# Altium footprint library pushbuttom.PcbLib: 1 footprints
Each footprint in its own frame and in the unit in brackets; x right, y up, seen from the top. Pads: shape width x height; smd on the part's side, far side on the other; paste and mask are expansions set on the pad; w line width, h text height; cw(c..) or ccw(c..) is an arc to the next point about the centre after c.
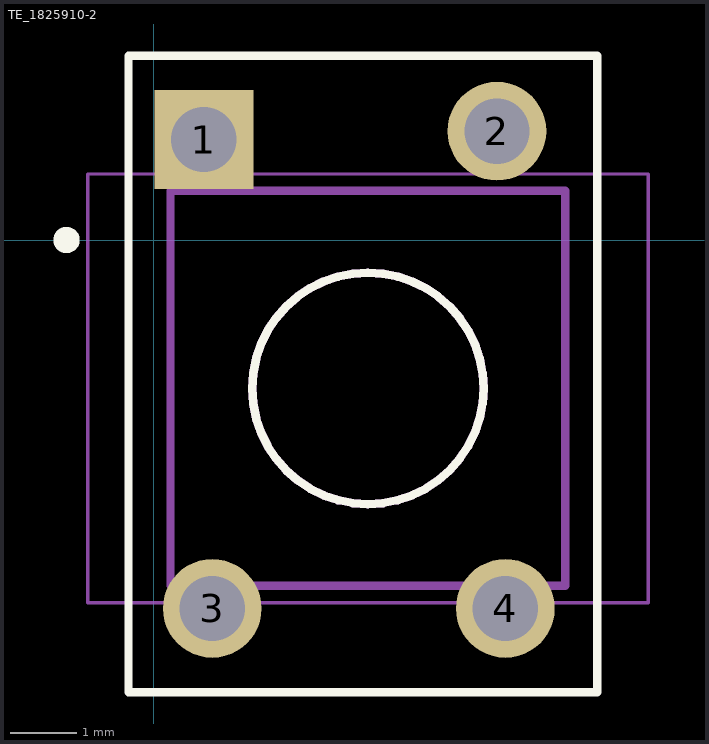
[diagram p0: the footprint, top view; thin cyan lines are the x and y axes]

## TE_1825910-2 [mil]
pads (4):
  rect 58.98x58.98 hole 38.98: 1(30,60)
  round 58.98 hole 38.98: 2(205,65) 3(35,-220) 4(210,-220)
Top Overlay:
  circle w5: c127.95,-88.58 r69.09
  circle w7.87: c-52.05,0 r3.94
  lines w5: -15,-270 265,-270 265,110 -15,110 -15,-270
Mechanical 13:
  circle w5: c127.95,-88.58 r69.09
  lines w5: 10.04,-206.5 10.04,29.33 245.87,29.33 245.87,-206.5 10.04,-206.5
Mechanical 15:
  lines w1.97: -39.37,-216.54 -39.37,39.37 295.28,39.37 295.28,-216.54 -39.37,-216.54
3D body "1825910-2_pushbutton.stp": height 169.79, standoff -137.69, extent 2.08,-233.54 237.91,73.54